# Altium schematic symbol library W25X80_SO.SchLib: 1 symbol
Pins are listed as number, name and electrical type; pins without a type are passive.

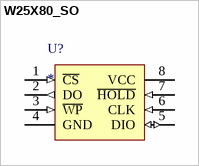
[diagram p0: symbol W25X80_SO]

## W25X80_SO
designator U?
pins: 1 ~{CS} (in), 2 DO (out), 3 ~{WP} (in), 4 GND (power), 5 DIO (io), 6 CLK (in), 7 ~{HOLD} (in), 8 VCC (power)